# Altium integrated library DRIVER_GATE_BOARD_solar_boost_converter.IntLib: 1 symbol
Pins are listed as number, name and electrical type; pins without a type are passive.

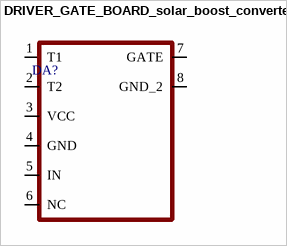
[diagram p0: symbol DRIVER_GATE_BOARD_solar_boost_converter]

## DRIVER_GATE_BOARD_solar_boost_converter
designator DA?
footprint DRIVER_GATE_BOARD_solar_boost_converter
pins: 1 T1, 2 T2, 3 VCC, 4 GND, 5 IN, 6 NC, 7 GATE, 8 GND_2